# Altium schematic symbol library Cellphone Chargers.SchLib: 2 symbols
Pins are listed as number, name and electrical type; pins without a type are passive.

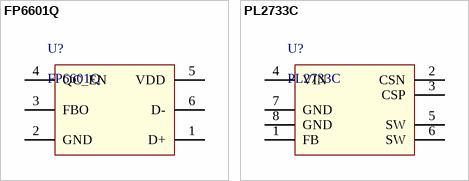
[diagram p0: symbols FP6601Q to PL2733C]

## FP6601Q
designator U?
FCP ,QUALCOM QUICKCHARGE, USB 2.0-3.0 QC,3.6-12V OUTPUT VOLTAGE; Value: FP6601Q
footprint FP6601Q (SOT23, 6-Leads, Body 2,90x2,80mm, Pitch 0,95mm, IPC Medium Density)
pins: 1 D+, 2 GND, 3 FBO, 4 QC_EN, 5 VDD, 6 D-

## PL2733C
designator U?
PL2733C It is a synchronous step-down power management chip that supports high-voltage input. 6~30V Can be achieved within a wide input voltage range / Present 3A Continuous current output. Through regulation FB Port voltage divider resistance can be output 1.8V To 28V The stable voltage.; Value: PL2733C
footprint PL2733C (SOIC, 8-Leads, Body 4,90x3,90mm, Pitch 1,27mm, IPC Medium Density)
pins: 1 FB, 2 CSN, 3 CSP, 4 VIN, 5 SW, 6 SW, 7 GND, 8 GND